# Altium footprint library UBC Rocket PCB Library.PcbLib: 3 footprints
Each footprint in its own frame and in the unit in brackets; x right, y up, seen from the top. Pads: shape width x height; smd on the part's side, far side on the other; paste and mask are expansions set on the pad; w line width, h text height; cw(c..) or ccw(c..) is an arc to the next point about the centre after c.
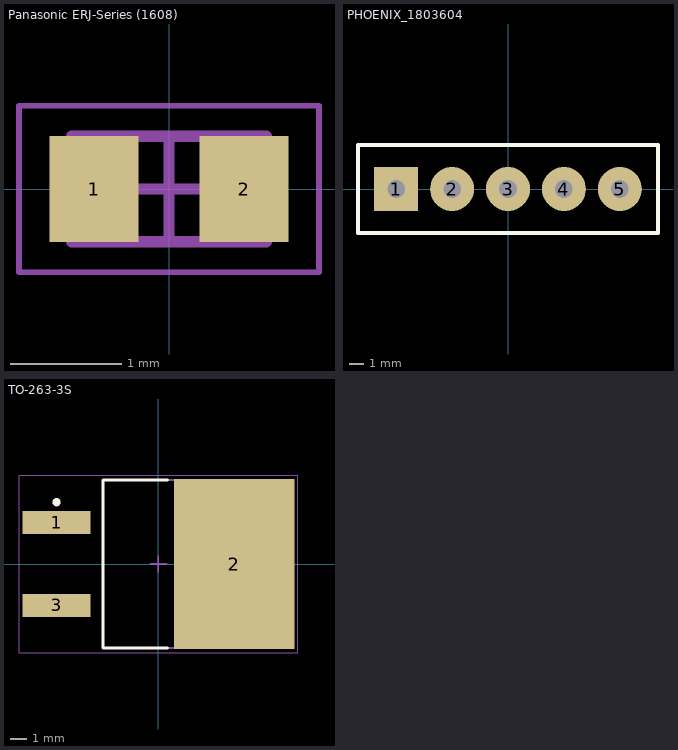
[diagram p0: the footprints below, top view; thin cyan lines are the x and y axes]

## Panasonic ERJ-Series (1608) [mm] "Thick Film Chip Resistor"
height 0.55
pads (2):
  rect 0.8x0.95 smd: 1(-0.675,0) 2(0.675,0)
Mechanical 13:
  lines w0.1: -0.875,-0.475 -0.875,0.475 0.875,0.475 0.875,-0.475 -0.875,-0.475
Mechanical 15:
  lines w0.05: -1.35,-0.75 -1.35,0.75 1.35,0.75 1.35,-0.75 -1.35,-0.75
  lines w0.1: -0.475,0 0.475,0 ; 0,-0.475 0,0.475
3D body: height 0.55, standoff 0, extent -0.575,-0.475 0.575,0.475
3D body: height 0.55, standoff 0, extent -0.875,-0.475 -0.575,0.475
3D body: height 0.55, standoff 0, extent 0.575,-0.475 0.875,0.475

## PHOENIX_1803604 [mm]
pads (5):
  rect 3x3 hole 1.2: 1(-7.62,0)
  round 3 hole 1.2: 2(-3.81,0) 3(0,0) 4(3.81,0) 5(7.62,0)
Top Overlay:
  lines w0.254: -10.22,-3 -10.22,3 10.22,3 10.22,-3 -10.22,-3

## TO-263-3S [mm] "D2-PAK, 3-Pads, Body 7.82x8.52mm (max), IPC Medium Density"
height 4.58
pads (3):
  rect 4.15x1.4 smd: 1(-6.25,2.54) 3(-6.25,-2.54)
  rect 7.4x10.4 smd: 2(4.65,0)
Top Overlay:
  circle w0.25: c-6.25,3.79 r0.125
  lines w0.2: 0.55,-5.15 -3.4,-5.15 -3.4,5.15 0.55,5.15
Mechanical 13:
  lines w0.1: -3.4,-5.15 -3.4,5.15 6.05,5.15 6.05,-5.15 -3.4,-5.15
Mechanical 15:
  lines w0.05: -8.55,-5.45 -8.55,5.45 8.55,5.45 8.55,-5.45 -8.55,-5.45
  lines w0.1: -0.5,0 0.5,0 ; 0,-0.5 0,0.5
3D body: height 4.58, standoff 0.25, extent -3.4,-5.15 6.05,5.15